# Altium schematic symbol library MULTITESTCARD V1I1.SchLib: 48 symbols (part 2 of 2)
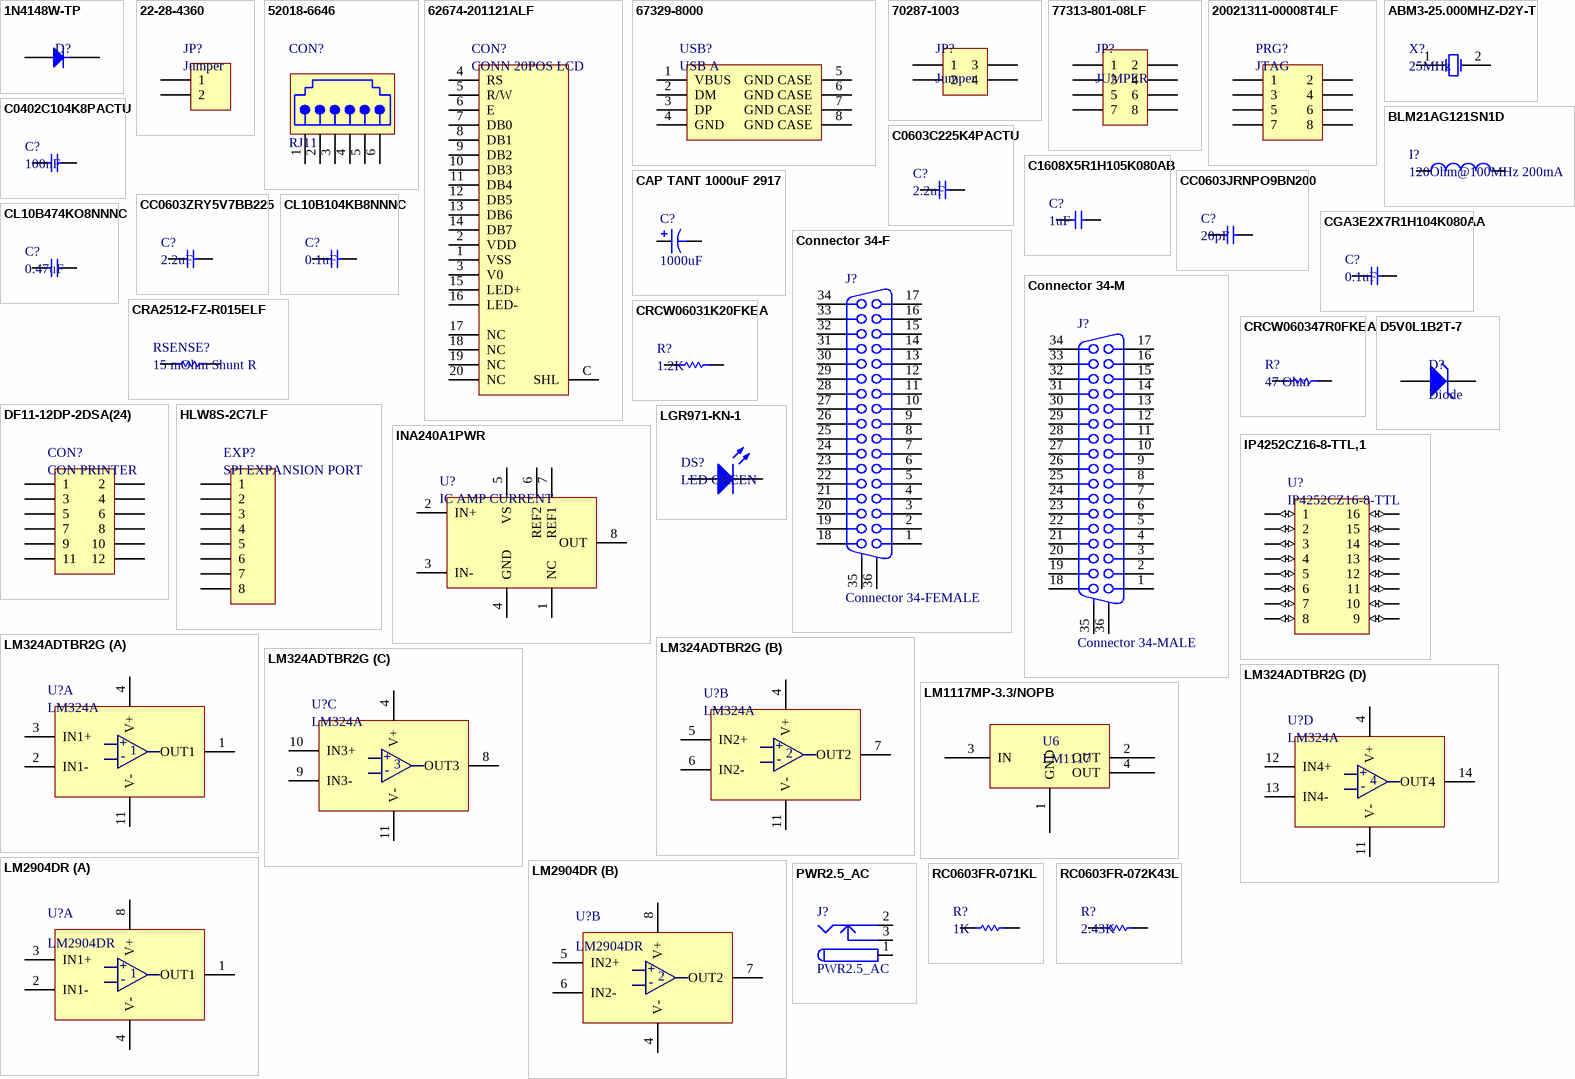
[diagram p2: symbols 1N4148W-TP to RC0603FR-072K43L]

## HLW8S-2C7LF
designator EXP?, comment SPI EXPANSION PORT
CONN FFC FPC VERT 8POS 1MM PCB; Manufacturer: Amphenol FCI; Manufacturer Part Number: HLW8S-2C7LF; Contact Resistance: 30mR; Current Rating: 1A; Voltage Rating: 100V; Number of Positions: 8; Contact Location: Top; Insulation Resistance: 500MR; Gender: Receptacle; Wire/Cable Type: Straight; Supplier 1: Digi-Key; Stock 1: 4257; Pricing 1: 1=0.22, 10=0.204, 25=0.1744, 50=0.1526, 100=0.1417, 250=0.1254, 500=0.1199, 1000=0.0981, 2500=0.0899 (USD); Mount: Through Hole; Contact Material: Bronze; Contact Plating: Tin; Housing Color: Black; Housing Material: Polybutylene; Min Operating Temperature: -55°C; Max Operating Temperature: 85°C; Number of Rows: 1; Package Quantity: 250; Packaging: Tray; Voltage Rating (AC): 100V; Termination: Solder; Max Voltage Rating (AC): 100V; Number of Contacts: 8; Max Voltage Rating (DC): 100V; Orientation: Straight; Length: 10.6mm; Pitch: 1mm; Depth: 3.9mm; Width: 3.9mm; Radiation Hardening: No; REACH SVHC: No SVHC; Lead Free: Lead Free; Flammability Rating: UL94 V-0; ComponentLink1URL: https://cdn.amphenol-icc.com/media/wysiwyg/files/drawing/hlw01lf.pdf?src-supplier=Digi-Key; ComponentLink1Description: https://cdn.amphenol-icc.com/media/wysiwyg/files/drawing/hlw01lf.pdf?src-supplier=Digi-Key; ComponentLink2URL: http://portal.fciconnect.com/Comergent/fci/drawing/hlw01lf.pdf?src-supplier=Avnet; ComponentLink2Description: http://portal.fciconnect.com/Comergent/fci/drawing/hlw01lf.pdf?src-supplier=Avnet; Supplier Part Number 1: 609-1821-ND
footprint CONN FPC/FFC 8POS (CONN FPC/FFC 8POS 1MM VERT PCB)
pins: 1, 2, 3, 4, 5, 6, 7, 8

## INA240A1PWR
designator U?, comment IC AMP CURRENT
IC AMP CURRENT SENSE 8-TSSOP; Manufacturer: Texas Instruments; Manufacturer Part Number: INA240A1PWR; Number of Circuits: 1; Slew Rate: 2V/µs; -3db Bandwidth: 400kHz; Input Bias Current: 90uA; Input Offset Voltage (Vos): 5uV; Operating Supply Current: 1.8mA; Supplier 1: Digi-Key; Stock 1: 19787; Pricing 1: 1=2.65, 10=2.377, 100=1.9109, 500=1.57, 1000=1.3008 (USD); Mount: Surface Mount; Case/Package: TSSOP; Min Operating Temperature: -40°C; Max Operating Temperature: 125°C; Packaging: Tape and Reel; Lead Free: Lead Free; Supplier Part Number 1: 296-45088-6-ND
footprint 8-TSSOP
pins: 1 NC, 2 IN+, 3 IN-, 4 GND, 5 VS, 6 REF2, 7 REF1, 8 OUT

## IP4252CZ16-8-TTL,1
designator U?, comment IP4252CZ16-8-TTL
FILTER RC(PI) 40 OHM/12PF SMD; Manufacturer: Nexperia; Manufacturer Part Number: IP4252CZ16-8-TTL,1; Supplier 1: Digi-Key; Stock 1: 8449; Pricing 1: 1=0.64, 10=0.61, 25=0.59, 50=0.4818, 100=0.4327, 250=0.3934, 500=0.3737, 1000=0.3344 (USD); Supplier Part Number 1: 1727-5675-6-ND
pins: 1 (io), 2 (io), 3 (io), 4 (io), 5 (io), 6 (io), 7 (io), 8 (io), 9 (io), 10 (io), 11 (io), 12 (io), 13 (io), 14 (io), 15 (io), 16 (io)

## LGR971-KN-1
designator DS?, comment LED GREEN
LED Uni-Color Green 572nm 2-Pin SMD T/R; Manufacturer: Osram Opto; Manufacturer Part Number: LGR971-KN-1; Lens Color: White; Forward Current: 25mA; Forward Voltage: 2.2V; Lens Style: Diffused,Flat,Colorless,Rectangular; Luminous Intensity: 45mcd; Viewing Angle: 160°; Test Current: 20mA; Dominant Wavelength: 570nm; Lens Transparency: Diffused; Luminous Flux: 0.1lm; Number of Elements: 1; Power Dissipation: 65mW; Reverse Voltage: 12V; Lens Size: 1.25mm; Supplier 1: Digi-Key; Stock 1: 173237; Pricing 1: 1=0.31, 10=0.229, 100=0.1083, 500=0.0722, 1000=0.0566 (USD); Mount: Surface Mount; Case/Package: 0805; Number of Pins: 2; Color: Green; Case Code (Metric): 2012; Case Code (Imperial): 0805; Min Operating Temperature: -30°C; Max Operating Temperature: 85°C; Packaging: Tape and Reel; Package Quantity: 1; Illumination Color: Green; Number of LEDs: 1; Length: 2.1mm; Height: 0.9mm; Width: 1.25mm; Depth: 1.35mm; Radiation Hardening: No; ComponentLink1URL: https://www.verical.com/server-webapp/html/getDatasheet?partID=233880&src-supplier=Verical; ComponentLink1Description: https://www.verical.com/server-webapp/html/getDatasheet?partID=233880&src-supplier=Verical; ComponentLink2URL: https://www.verical.com/server-webapp/html/getDatasheet?partID=462214&src-supplier=Verical; ComponentLink2Description: https://www.verical.com/server-webapp/html/getDatasheet?partID=462214&src-supplier=Verical; ComponentLink3URL: https://dammedia.osram.info/media/resource/hires/osram-dam-2493936/LG%20R971.pdf?src-supplier=Digi-Key; ComponentLink3Description: https://dammedia.osram.info/media/resource/hires/osram-dam-2493936/LG%20R971.pdf?src-supplier=Digi-Key; ComponentLink4URL: http://www.mouser.com/ds/2/311/LG%20R971%20-%20CHIPLED%200805-318376.pdf?src-supplier=Mouser; ComponentLink4Description: http://www.mouser.com/ds/2/311/LG%20R971%20-%20CHIPLED%200805-318376.pdf?src-supplier=Mouser; Supplier Part Number 1: 475-1410-6-ND
footprint LED-SMD-0805 (LED CHIPLED 570NM GREEN 0805 SMD)
pins: 1 K, 2 A

## LM324ADTBR2G
designator U?, comment LM324A
LM324A Series 0.6 V/us 32V SMT Single Supply Quad Operational Amplifier-TSSOP-14; Manufacturer: ON Semiconductor; Manufacturer Part Number: LM324ADTBR2G; Number of Channels: 4; Common Mode Rejection Ratio: 65dB; Output Current: 40mA; Max Dual Supply Voltage: 16V; Min Supply Voltage: 3V; Slew Rate: 0.6V/µs; Nominal Supply Current: 1.2mA; Min Dual Supply Voltage: 1.5V; Voltage Gain: 100dB; Gain Bandwidth Product: 1MHz; Input Bias Current: 100nA; Input Offset Voltage (Vos): 3mV; Operating Supply Current: 1.4mA; Supplier 1: Digi-Key; Stock 1: 12204; Pricing 1: 1=0.46, 10=0.392, 100=0.2924, 500=0.2298, 1000=0.1776 (USD); Case/Package: TSSOP; Number of Pins: 14; Min Operating Temperature: 0°C; Max Operating Temperature: 70°C; Packaging: Tape and Reel; Max Supply Voltage: 32V; Package Quantity: 1; Number of Circuits: 4; Output Current per Channel: 40mA; Number of Elements: 4; Power Supply Rejection Ratio (PSRR): 65dB; Operating Supply Voltage: 16V; Length: 5.1mm; Height: 1.05mm; Width: 4.5mm; Radiation Hardening: No; Lead Free: Lead Free; Halogen Free: Halogen Free; ComponentLink1URL: http://www.onsemi.com/pub/Collateral/LM324-D.PDF?src-supplier=Digi-Key; ComponentLink1Description: http://www.onsemi.com/pub/Collateral/LM324-D.PDF?src-supplier=Digi-Key; ComponentLink2URL: https://www.verical.com/server-webapp/html/getDatasheet?partID=53740&src-supplier=Verical; ComponentLink2Description: https://www.verical.com/server-webapp/html/getDatasheet?partID=53740&src-supplier=Verical; ComponentLink3URL: http://www.onsemi.com/pub_link/Collateral/LM324-D.PDF?src-supplier=Future+Electronics; ComponentLink3Description: http://www.onsemi.com/pub_link/Collateral/LM324-D.PDF?src-supplier=Future+Electronics; ComponentLink4URL: http://www.onsemi.com/pub_link/Collateral/LM324-D.PDF?src-supplier=Digi-Key; ComponentLink4Description: http://www.onsemi.com/pub_link/Collateral/LM324-D.PDF?src-supplier=Digi-Key
part A pins: 1 OUT1, 2 IN1-, 3 IN1+, 4 V+, 11 V-
part B pins: 4 V+, 5 IN2+, 6 IN2-, 7 OUT2, 11 V-
part C pins: 4 V+, 8 OUT3, 9 IN3-, 10 IN3+, 11 V-
part D pins: 4 V+, 11 V-, 12 IN4+, 13 IN4-, 14 OUT4
part A text: +; -
part B text: +; -
part C text: +; -
part D text: +; -

## LM1117MP-3.3/NOPB
designator U6, comment LM1117
Space saving 800-mA low-dropout linear regulator with internal current limit 4-SOT-223 0 to 125; Manufacturer: TI National Semiconductor; Manufacturer Part Number: LM1117MP-3.3/NOPB; Max Input Voltage: 15V; Dropout Voltage: 1.2V; Output Voltage: 3.3V; Number of Outputs: 1; Max Output Current: 800mA; Polarity: Positive; Quiescent Current: 10mA; Output Voltage Accuracy: 1%; Output Type: Fixed; Supplier 1: Digi-Key; Stock 1: 43034; Pricing 1: 1=1.14, 10=1.015, 100=0.7912, 500=0.6536 (USD); Mount: Surface Mount; Case/Package: SOT-223; Number of Pins: 4; Min Operating Temperature: 0°C; Max Operating Temperature: 125°C; Packaging: Tape and Reel; Output Current: 800mA; Nominal Output Voltage: 3.3V; Accuracy: 1%; Current Rating: 800mA; Package Quantity: 1000; Number of Regulators: 1; Min Current Limit: 800mA; Length: 6.5mm; Height: 1.6mm; Width: 3.56mm; Radiation Hardening: No; REACH SVHC: No SVHC; Lead Free: Lead Free; ComponentLink1URL: https://www.verical.com/server-webapp/html/getDatasheet?partID=112131&src-supplier=Verical; ComponentLink1Description: https://www.verical.com/server-webapp/html/getDatasheet?partID=112131&src-supplier=Verical; ComponentLink2URL: http://www.ti.com/lit/ds/symlink/lm1117-n.pdf?src-supplier=Avnet+Asia; ComponentLink2Description: http://www.ti.com/lit/ds/symlink/lm1117-n.pdf?src-supplier=Avnet+Asia; ComponentLink3URL: http://www.ti.com/lit/ds/symlink/lm1117.pdf?src-supplier=Digi-Key; ComponentLink3Description: http://www.ti.com/lit/ds/symlink/lm1117.pdf?src-supplier=Digi-Key; ComponentLink4URL: http://www.ti.com/lit/ds/symlink/lm1117-n.pdf?src-supplier=Avnet+Europe; ComponentLink4Description: http://www.ti.com/lit/ds/symlink/lm1117-n.pdf?src-supplier=Avnet+Europe; ComponentLink5URL: https://www.distrelec.com/ishop/Datasheets/lm1117_eng_tds.pdf?src-supplier=Distrelec; ComponentLink5Description: https://www.distrelec.com/ishop/Datasheets/lm1117_eng_tds.pdf?src-supplier=Distrelec; Supplier Part Number 1: LM1117MP-3.3/NOPBDKR-ND
footprint SOT223 (Connector LM1117)
pins: 1 GND, 2 OUT, 3 IN, 4 OUT

## LM2904DR
designator U?
Operational Amplifier, Dual, 700 kHz, 2, 0.3 V/ s, 1.5V to 13V, SOIC, 8 ;RoHS Compliant: Yes; Manufacturer: Texas Instruments; Unity Gain Bandwidth Product: 700kHz; Slew Rate: 0.3V/µs; Common Mode Rejection Ratio: 50dB; Max Supply Voltage: 26V; Min Supply Voltage: 3V; Voltage Gain: 100dB; Number of Channels: 2; Output Current: 30mA; Nominal Supply Current: 1.2mA; Dual Supply Voltage: 9V; Input Bias Current: 250nA; Input Offset Voltage (Vos): 7mV; Operating Supply Current: 1mA; Supplier 1: Digi-Key; Manufacturer Part Number: LM2904DR; Stock 1: 117399; Pricing 1: 1=0.41, 10=0.305, 25=0.2752, 100=0.15, 250=0.145, 500=0.13, 1000=0.1 (USD); Mount: Surface Mount; Case/Package: SOIC; Number of Pins: 8; Min Operating Temperature: -40°C; Max Operating Temperature: 125°C; Min Dual Supply Voltage: 1.5V; Max Dual Supply Voltage: 13V; Packaging: Tape and Reel; Bandwidth: 700kHz; Package Quantity: 1; Operating Supply Voltage: 13V; Number of Circuits: 2; Gain Bandwidth Product: 700kHz; Output Current per Channel: 30mA; Number of Elements: 2; Number of Amplifiers: 2; Length: 4.9mm; Height: 1.58mm; Width: 3.91mm; Radiation Hardening: No; REACH SVHC: No SVHC; Lead Free: Lead Free; ComponentLink1URL: http://www.jameco.com/Jameco/Products/ProdDS/902371.pdf?src-supplier=Jameco; ComponentLink1Description: http://www.jameco.com/Jameco/Products/ProdDS/902371.pdf?src-supplier=Jameco; ComponentLink2URL: http://www.farnell.com/datasheets/2020388.pdf?src-supplier=Element14; ComponentLink2Description: http://www.farnell.com/datasheets/2020388.pdf?src-supplier=Element14; ComponentLink3URL: http://www.farnell.com/datasheets/1840278.pdf?src-supplier=Element14; ComponentLink3Description: http://www.farnell.com/datasheets/1840278.pdf?src-supplier=Element14; ComponentLink4URL: http://www.ti.com/lit/ds/symlink/lm258a.pdf?src-supplier=Digi-Key; ComponentLink4Description: http://www.ti.com/lit/ds/symlink/lm258a.pdf?src-supplier=Digi-Key; ComponentLink5URL: http://www.ti.com/general/docs/lit/getliterature.tsp?genericPartNumber=LM158A&&fileType=pdf&src-supplier=Avnet; ComponentLink5Description: http://www.ti.com/general/docs/lit/getliterature.tsp?genericPartNumber=LM158A&&fileType=pdf&src-supplier=Avnet; Supplier Part Number 1: 296-14596-1-ND
footprint 8-SOIC (LM2904DR)
part A pins: 1 OUT1, 2 IN1-, 3 IN1+, 4 V-, 8 V+
part B pins: 4 V-, 5 IN2+, 6 IN2-, 7 OUT2, 8 V+
part A text: +; -
part B text: +; -

## PWR2.5_AC
designator J?
CONN POWER JACK 2.1MM; Manufacturer: CUI Inc; Manufacturer Part Number: PJ-002A; Gender: Male; Shielding: Unshielded; Current Rating: 2.5A; Voltage Rating: 24V; Insulation Resistance: 50MR; Number of Conductors: 2; Published: 17-Dec-2003; DatasheetDocument: 09-May-2002; Publisher: Altium Limited; ComponentLink1Description: Manufacturer Link; ComponentLink1URL: http://domino.kycon.com/internet/Products.html; Supplier 1: Digi-Key; Supplier Part Number 1: CP-002A-ND; Stock 1: 51043; Pricing 1: 1=0.6, 10=0.558, 25=0.5024, 50=0.4464, 100=0.4278, 250=0.3906, 500=0.372, 1000=0.3069, 2500=0.279 (USD); Mount: Through Hole; Color: Black; Contact Material: Copper Alloy,Copper; Contact Plating: Tin,Nickel; Housing Color: Black; Housing Material: Thermoplastic; Min Operating Temperature: -25°C; Max Operating Temperature: 85°C; Termination: Through Hole; Connector Type: Jack; Packaging: Bulk; Package Quantity: 500; Contact Gender: Male; Orientation: Horizontal; Diameter: 2.1mm; Lead Free: Lead Free; Flammability Rating: UL94 V-0
signal-integrity model Connector
footprint KLD-0202-AC (DC Power Jack, 2.5mm, KLD Series, PCB Mount)
pins: 1 (power), 2 (power), 3 (power)

## RC0603FR-071KL
designator R?, comment 1K
RES SMD 1K OHM 1% 1/10W 0603; Manufacturer: Yageo; Manufacturer Part Number: RC0603FR-071KL; Resistance: 1kR; Power Rating: 100mW; Temperature Coefficient: 100ppm/°C; Voltage Rating: 50V; Supplier 1: Digi-Key; Stock 1: 48702346; Pricing 1: 1=0.1, 10=0.024, 100=0.0097, 1000=0.0044, 2500=0.0038 (USD); Case/Package: 0603; Case Code (Imperial): 0603; Case Code (Metric): 1608; Contact Plating: Tin,Matte; Min Operating Temperature: -55°C; Max Operating Temperature: 155°C; Tolerance: 1%; Packaging: Tape and Reel; Military Standard: Not; Termination: SMD/SMT; Composition: Thick Film; Length: 1.6mm; Height: 0.45mm; Depth: 0.8mm; Radiation Hardening: No; REACH SVHC: No SVHC; Lead Free: Lead Free; ComponentLink1URL: http://documents.rs-components.com/techlib://itc_doclist_GB.htm?stockno=5048928&src-supplier=RSComponents; ComponentLink1Description: http://documents.rs-components.com/techlib://itc_doclist_GB.htm?stockno=5048928&src-supplier=RSComponents; ComponentLink2URL: http://www.yageo.com/documents/recent/PYu-RC0603_51_RoHS_L_4.pdf?src-supplier=Avnet+Europe; ComponentLink2Description: http://www.yageo.com/documents/recent/PYu-RC0603_51_RoHS_L_4.pdf?src-supplier=Avnet+Europe; ComponentLink3URL: http://www.farnell.com/datasheets/2167052.pdf?src-supplier=Element14; ComponentLink3Description: http://www.farnell.com/datasheets/2167052.pdf?src-supplier=Element14; ComponentLink4URL: http://www.farnell.com/datasheets/1868787.pdf?src-supplier=Element14; ComponentLink4Description: http://www.farnell.com/datasheets/1868787.pdf?src-supplier=Element14; ComponentLink5URL: http://www.yageo.com/documents/recent/PYu-RC_Group_51_RoHS_L_2.pdf?src-supplier=Avnet; ComponentLink5Description: http://www.yageo.com/documents/recent/PYu-RC_Group_51_RoHS_L_2.pdf?src-supplier=Avnet; ComponentLink6URL: https://www.verical.com/server-webapp/html/getDatasheet?partID=404327&src-supplier=Verical; ComponentLink6Description: https://www.verical.com/server-webapp/html/getDatasheet?partID=404327&src-supplier=Verical; ComponentLink7URL: http://www.farnell.com/datasheets/443971.pdf?src-supplier=Element14; ComponentLink7Description: http://www.farnell.com/datasheets/443971.pdf?src-supplier=Element14; Supplier Part Number 1: 311-1.00KHRDKR-ND
footprint R-0603 (RES 0603)
pins: 1, 2

## RC0603FR-072K43L
designator R?, comment 2.43K
RES SMD 2.43K OHM 1% 1/10W 0603; Manufacturer: Yageo; Manufacturer Part Number: RC0603FR-072K43L; Resistance: 2.43kR; Power Rating: 100mW; Voltage Rating: 50V; Temperature Coefficient: 100ppm/°C; Supplier 1: Digi-Key; Stock 1: 703719; Pricing 1: 1=0.1, 10=0.024, 100=0.0097, 1000=0.0044, 2500=0.0038 (USD); Case/Package: 0603; Case Code (Metric): 1608; Case Code (Imperial): 0603; Min Operating Temperature: -55°C; Max Operating Temperature: 155°C; Tolerance: 1%; Packaging: Tape and Reel; Composition: Thick Film; Termination: SMD/SMT; Military Standard: Not; Voltage Rating (DC): 50V; Package Quantity: 1; Number of Terminations: 2; Max Power Dissipation: 100mW; Features: Moisture Resistant; Length: 1.6mm; Height: 0.022inch; Width: 0.031inch; Depth: 0.8mm; Lead Free: Lead Free; ComponentLink1URL: https://www.verical.com/server-webapp/html/getDatasheet?partID=28835&src-supplier=Verical; ComponentLink1Description: https://www.verical.com/server-webapp/html/getDatasheet?partID=28835&src-supplier=Verical; ComponentLink2URL: http://www.yageo.com/documents/recent/PYu-RC_Group_51_RoHS_L_9.pdf?src-supplier=Digi-Key; ComponentLink2Description: http://www.yageo.com/documents/recent/PYu-RC_Group_51_RoHS_L_9.pdf?src-supplier=Digi-Key; ComponentLink3URL: http://www.yageo.com/documents/recent/PYu-RC_Group_51_RoHS_L_10.pdf?src-supplier=Digi-Key; ComponentLink3Description: http://www.yageo.com/documents/recent/PYu-RC_Group_51_RoHS_L_10.pdf?src-supplier=Digi-Key; ComponentLink4URL: http://www.mouser.com/catalog/specsheets/RC0603.pdf?src-supplier=Mouser; ComponentLink4Description: http://www.mouser.com/catalog/specsheets/RC0603.pdf?src-supplier=Mouser; Supplier Part Number 1: 311-2.43KHRDKR-ND
footprint R-0603 (RES 0603)
pins: 1, 2

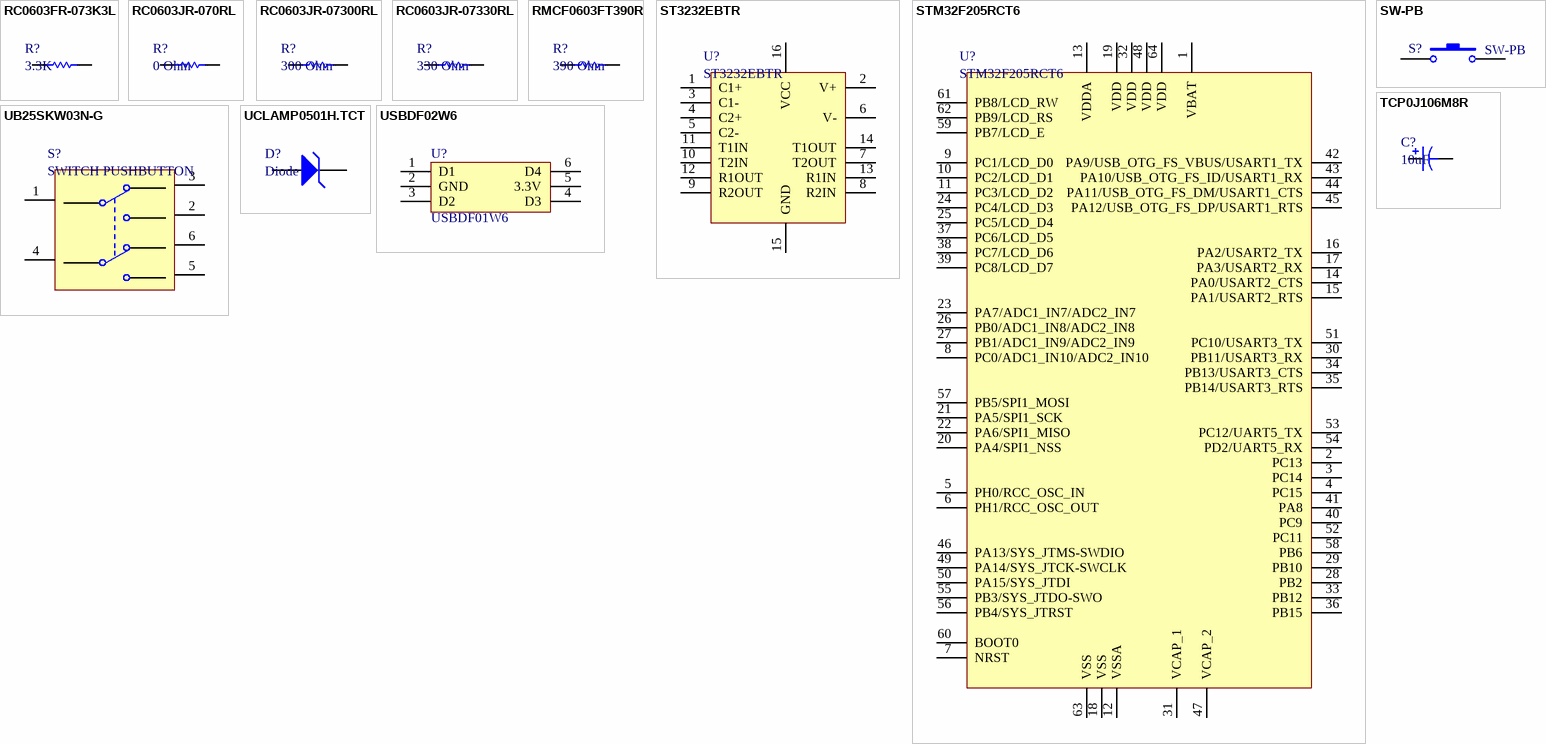
[diagram p1: symbols RC0603FR-073K3L to USBDF02W6]

## RC0603FR-073K3L
designator R?, comment 3.3K
Yageo RC Series Thick Film Surface Mount Resistor 0603 Case 3300 1% 0.1W 100ppm/C; Manufacturer: Yageo Phycomp; Manufacturer Part Number: RC0603FR-073K3L; Power Rating: 100mW; Temperature Coefficient: 100ppm/°C; Voltage Rating (DC): 50V; Resistance: 3.3kR; Supplier 1: Digi-Key; Stock 1: 5812833; Pricing 1: 1=0.1, 10=0.024, 100=0.0097, 1000=0.0044, 2500=0.0038 (USD); Mount: Surface Mount; Case/Package: 0603; Number of Pins: 2; Min Operating Temperature: -55°C; Max Operating Temperature: 155°C; Tolerance: 1%; Packaging: Cut Tape; Length: 1.6mm; Height: 0.45mm; Depth: 0.8mm; Width: 800um; REACH SVHC: No SVHC; Lead Free: Lead Free; Supplier Part Number 1: 311-3.30KHRDKR-ND
footprint R-0603 (RES 0603)
pins: 1, 2

## RC0603JR-070RL
designator R?, comment 0 Ohm
RES SMD 0 OHM JUMPER 1/10W 0603; Manufacturer: Yageo; Manufacturer Part Number: RC0603JR-070RL; Resistance: 0mR; Power Rating: 100mW; Voltage Rating (DC): 50V; Tolerance: 1%; Temperature Coefficient: 200ppm/°C; Supplier 1: Digi-Key; Stock 1: 41795078; Pricing 1: 1=0.1, 10=0.022, 25=0.0156, 50=0.012, 100=0.0088, 250=0.0067, 500=0.0054, 1000=0.004 (USD); Case/Package: 0603; Number of Pins: 2; Case Code (Imperial): 0603; Case Code (Metric): 1608; Contact Plating: Tin,Matte; Min Operating Temperature: -55°C; Max Operating Temperature: 155°C; Packaging: Tape and Reel; Composition: Thick Film; Military Standard: Not; Voltage Rating: 50V; Package Quantity: 5000; Termination: SMD/SMT; Length: 1.6mm; Height: 0.45mm; Width: 0.8mm; Depth: 0.8mm; Radiation Hardening: No; Lead Free: Lead Free; REACH SVHC: No SVHC; ComponentLink1URL: http://www.farnell.com/datasheets/1868787.pdf?src-supplier=Element14; ComponentLink1Description: http://www.farnell.com/datasheets/1868787.pdf?src-supplier=Element14; ComponentLink2URL: https://www.verical.com/server-webapp/html/getDatasheet?partID=329462&src-supplier=Verical; ComponentLink2Description: https://www.verical.com/server-webapp/html/getDatasheet?partID=329462&src-supplier=Verical; ComponentLink3URL: http://www.farnell.com/datasheets/2167052.pdf?src-supplier=Element14; ComponentLink3Description: http://www.farnell.com/datasheets/2167052.pdf?src-supplier=Element14; ComponentLink4URL: http://www.yageo.com/documents/recent/PYu-RC_Group_51_RoHS_L_9.pdf?src-supplier=Mouser; ComponentLink4Description: http://www.yageo.com/documents/recent/PYu-RC_Group_51_RoHS_L_9.pdf?src-supplier=Mouser; ComponentLink5URL: http://www.farnell.com/datasheets/443971.pdf?src-supplier=Element14; ComponentLink5Description: http://www.farnell.com/datasheets/443971.pdf?src-supplier=Element14; ComponentLink6URL: http://documents.rs-components.com/techlib://itc_doclist_GB.htm?stockno=6515918&src-supplier=RSComponents; ComponentLink6Description: http://documents.rs-components.com/techlib://itc_doclist_GB.htm?stockno=6515918&src-supplier=RSComponents; Supplier Part Number 1: 311-0.0GRDKR-ND
footprint R-0603 (RES 0603)
pins: 1, 2

## RC0603JR-07300RL
designator R?, comment 300 Ohm
RES SMD 300 OHM 5% 1/10W 0603; Manufacturer: Yageo; Manufacturer Part Number: RC0603JR-07300RL; Resistance: 300R; Power Rating: 100mW; Voltage Rating: 75V; Temperature Coefficient: 100ppm/°C; Voltage Rating (DC): 50V; Supplier 1: Digi-Key; Stock 1: 150; Pricing 1: 1=0.1, 10=0.02, 100=0.0081, 1000=0.0036, 2500=0.0031 (USD); Case/Package: 0603; Number of Pins: 2; Weight: 7.1E-05oz; Case Code (Imperial): 0603; Case Code (Metric): 1608; Min Operating Temperature: -55°C; Max Operating Temperature: 155°C; Tolerance: 5%; Packaging: Tape and Reel; Termination: SMD/SMT; Composition: Thick Film; Military Standard: Not; Length: 1.6mm; Height: 0.45mm; Width: 0.8mm; Depth: 0.8mm; REACH SVHC: Unknown; Lead Free: Lead Free; ComponentLink1URL: http://www.farnell.com/datasheets/2167052.pdf?src-supplier=Farnell; ComponentLink1Description: http://www.farnell.com/datasheets/2167052.pdf?src-supplier=Farnell; ComponentLink2URL: http://www.yageo.com/documents/recent/PYu-RC0603_51_RoHS_L_7.pdf?src-supplier=Future+Electronics; ComponentLink2Description: http://www.yageo.com/documents/recent/PYu-RC0603_51_RoHS_L_7.pdf?src-supplier=Future+Electronics; ComponentLink3URL: http://www.mouser.com/ds/2/447/RC0603-1212058.pdf?src-supplier=Mouser; ComponentLink3Description: http://www.mouser.com/ds/2/447/RC0603-1212058.pdf?src-supplier=Mouser; ComponentLink4URL: http://components.arrow.com/part/dataview/0323_03543424?src-supplier=Arrow+Europe; ComponentLink4Description: http://components.arrow.com/part/dataview/0323_03543424?src-supplier=Arrow+Europe; ComponentLink5URL: http://www.yageo.com/documents/recent/PYu-RC_Group_51_RoHS_L_9.pdf?src-supplier=Digi-Key; ComponentLink5Description: http://www.yageo.com/documents/recent/PYu-RC_Group_51_RoHS_L_9.pdf?src-supplier=Digi-Key; ComponentLink6URL: http://www.yageo.com/documents/recent/PYu-RC_Group_51_RoHS_L_10.pdf?src-supplier=Digi-Key; ComponentLink6Description: http://www.yageo.com/documents/recent/PYu-RC_Group_51_RoHS_L_10.pdf?src-supplier=Digi-Key; ComponentLink7URL: http://www.farnell.com/datasheets/1868787.pdf?src-supplier=Element14; ComponentLink7Description: http://www.farnell.com/datasheets/1868787.pdf?src-supplier=Element14; Supplier Part Number 1: 311-300GRDKR-ND
footprint R-0603 (RES 0603)
pins: 1, 2

## RC0603JR-07330RL
designator R?, comment 330 Ohm
RES SMD 330 OHM 5% 1/10W 0603; Manufacturer: Yageo; Manufacturer Part Number: RC0603JR-07330RL; Resistance: 330R; Power Rating: 100mW; Voltage Rating (DC): 50V; Temperature Coefficient: 100ppm/°C; Supplier 1: Digi-Key; Stock 1: 5319563; Pricing 1: 1=0.1, 10=0.02, 100=0.0081, 1000=0.0036, 2500=0.0031 (USD); Case/Package: 0603; Number of Pins: 2; Case Code (Imperial): 0603; Case Code (Metric): 1608; Min Operating Temperature: -55°C; Max Operating Temperature: 155°C; Tolerance: 5%; Packaging: Tape and Reel; Voltage Rating: 50V; Package Quantity: 5000; Termination: SMD/SMT; Composition: Thick Film; Military Standard: Not; Length: 1.6mm; Height: 0.45mm; Width: 0.8mm; Depth: 0.8mm; REACH SVHC: No SVHC; Lead Free: Lead Free; ComponentLink1URL: http://www.farnell.com/datasheets/1868787.pdf?src-supplier=Element14; ComponentLink1Description: http://www.farnell.com/datasheets/1868787.pdf?src-supplier=Element14; ComponentLink2URL: http://www.farnell.com/datasheets/443971.pdf?src-supplier=Element14; ComponentLink2Description: http://www.farnell.com/datasheets/443971.pdf?src-supplier=Element14; ComponentLink3URL: https://www.verical.com/server-webapp/html/getDatasheet?partID=342831&src-supplier=Verical; ComponentLink3Description: https://www.verical.com/server-webapp/html/getDatasheet?partID=342831&src-supplier=Verical; ComponentLink4URL: http://www.mouser.com/catalog/specsheets/RC0603.pdf?src-supplier=Mouser; ComponentLink4Description: http://www.mouser.com/catalog/specsheets/RC0603.pdf?src-supplier=Mouser; Supplier Part Number 1: 311-330GRDKR-ND
footprint R-0603 (RES 0603)
pins: 1, 2

## RMCF0603FT390R
designator R?, comment 390 Ohm
Res Thick Film 0603 390 Ohm 1% 0.1W ±100ppm/°C Molded SMD Paper T/R; Manufacturer: Stackpole Electronics; Manufacturer Part Number: RMCF0603FT390R; Resistance: 390R; Max Power Dissipation: 100mW; Supplier 1: Digi-Key; Stock 1: 0; Pricing 1: 1=0.1, 10=0.017, 100=0.0068, 1000=0.0031, 2500=0.0027 (USD); Mount: Surface Mount; Case/Package: 0603; Case Code (Metric): 1608; Case Code (Imperial): 0603; Contact Plating: Tin,Matte; Min Operating Temperature: -55°C; Max Operating Temperature: 155°C; Packaging: Tape and Reel; Tolerance: 1%; Composition: Thick Film; Number of Terminations: 2; Temperature Coefficient: 100ppm/°C; Features: Automotive AEC-Q200; Length: 0.061inch; Height: 0.022inch; Width: 0.031inch; Radiation Hardening: No; Supplier Part Number 1: RMCF0603FT390RDKR-ND
footprint R-0603 (RES 0603)
pins: 1, 2

## ST3232EBTR
designator U?
IC DRVR/RCVR RS232 ESD 16-TSSOP; Manufacturer: STMicroelectronics; Data Rate: 250Kbps; Number of Receivers: 2; Max Supply Voltage: 5.5V; Min Supply Voltage: 3V; Nominal Supply Current: 1mA; Interface: RS-232; Number of Transceivers: 1; Logic Function: Receiver; Output Voltage: 13.2V; Supplier 1: Digi-Key; Manufacturer Part Number: ST3232EBTR; Stock 1: 24430; Pricing 1: 1=1.35, 10=1.21, 100=0.9433, 500=0.7793, 1000=0.6152 (USD); Mount: Surface Mount; Case/Package: TSSOP; Number of Pins: 16; Min Operating Temperature: -40°C; Max Operating Temperature: 85°C; Number of Transmitters: 2; Packaging: Tape and Reel; Package Quantity: 1; Number of Drivers: 2; Length: 5.1mm; Height: 1.05mm; Width: 4.48mm; Radiation Hardening: No; REACH SVHC: No SVHC; Lead Free: Lead Free; ComponentLink1URL: http://www.st.com/content/ccc/resource/technical/document/datasheet/60/fc/e5/60/2c/24/41/88/CD00002950.pdf/files/CD00002950.pdf/jcr:content/translations/en.CD00002950.pdf?src-supplier=Digi-Key; ComponentLink1Description: http://www.st.com/content/ccc/resource/technical/document/datasheet/60/fc/e5/60/2c/24/41/88/CD00002950.pdf/files/CD00002950.pdf/jcr:content/translations/en.CD00002950.pdf?src-supplier=Digi-Key; ComponentLink2URL: http://www.st.com/web/en/resource/technical/document/datasheet/CD00002950.pdf?src-supplier=Mouser; ComponentLink2Description: http://www.st.com/web/en/resource/technical/document/datasheet/CD00002950.pdf?src-supplier=Mouser; ComponentLink3URL: http://www.farnell.com/datasheets/1689894.pdf?src-supplier=Element14; ComponentLink3Description: http://www.farnell.com/datasheets/1689894.pdf?src-supplier=Element14; ComponentLink4URL: http://www.st.com/web/en/resource/technical/document/datasheet/CD00002950.pdf?src-supplier=Future+Electronics; ComponentLink4Description: http://www.st.com/web/en/resource/technical/document/datasheet/CD00002950.pdf?src-supplier=Future+Electronics; Supplier Part Number 1: 497-6536-6-ND
footprint TSSOP-16 (Shrink Small Outline, Plastic, Thin; 16 Leads; Body Width 4.5 mm; Pitch 0.65 mm)
pins: 1 C1+, 2 V+, 3 C1-, 4 C2+, 5 C2-, 6 V-, 7 T2OUT, 8 R2IN, 9 R2OUT, 10 T2IN, 11 T1IN, 12 R1OUT, 13 R1IN, 14 T1OUT, 15 GND, 16 VCC

## STM32F205RCT6
designator U?
MCU 32-bit STM32 ARM Cortex M3 RISC 256KB Flash 2.5V/3.3V 64-Pin LQFP Tray; Manufacturer: STMicroelectronics; RAM Size: 100KB; Max Power Dissipation: 444mW; Interface: SDIO,I2C,SPI,USB,CAN,IrDA,MMC,UART,USART,LIN,I2S; Number of I/Os: 51; Number of Timers/Counters: 14; Max Supply Voltage: 3.6V; Number of PWM Channels: 2; Frequency: 120MHz; Min Supply Voltage: 1.8V; Number of Programmable I/O: 16; Data Bus Width: 32b; Oscillator Type: Internal; Number of SPI Channels: 3; Number of Ethernet Channels: 1; Watchdog Timer: Yes; Peripherals: Brown-out Detect/Reset,POR,PWM,WDT,DMA,LCD,I2C; Supplier 1: Digi-Key; Manufacturer Part Number: STM32F205RCT6; Stock 1: 1348; Pricing 1: 1=7.79, 10=7.04, 160=5.8288, 640=5.0756, 1120=4.4207 (USD); Case/Package: LQFP; Number of Pins: 64; Min Operating Temperature: -40°C; Max Operating Temperature: 85°C; Package Quantity: 160; Packaging: Tray; Max Frequency: 120MHz; Number of USB Channels: 2; Number of ADC Channels: 16; Number of I2C Channels: 3; Memory Type: FLASH; Memory Size: 256KB; Number of UART Channels: 2; Core Architecture: ARM; Length: 10.2mm; Height: 1.45mm; Width: 10.2mm; Radiation Hardening: No; REACH SVHC: No SVHC; Lead Free: Lead Free; ComponentLink1URL: http://www.farnell.com/datasheets/1776949.pdf?src-supplier=Element14; ComponentLink1Description: http://www.farnell.com/datasheets/1776949.pdf?src-supplier=Element14; ComponentLink2URL: http://www.st.com/web/en/resource/technical/document/datasheet/CD00237391.pdf?src-supplier=Future+Electronics; ComponentLink2Description: http://www.st.com/web/en/resource/technical/document/datasheet/CD00237391.pdf?src-supplier=Future+Electronics; ComponentLink3URL: http://www.st.com/web/en/resource/technical/document/datasheet/CD00237391.pdf?src-supplier=Avnet+Asia; ComponentLink3Description: http://www.st.com/web/en/resource/technical/document/datasheet/CD00237391.pdf?src-supplier=Avnet+Asia; ComponentLink4URL: http://www.produktinfo.conrad.com/datenblaetter/1000000-1099999/001075498-da-01-en-MCU_256KB_STM32F205RCT6_LQFP_64_STM.pdf?src-supplier=Conrad; ComponentLink4Description: http://www.produktinfo.conrad.com/datenblaetter/1000000-1099999/001075498-da-01-en-MCU_256KB_STM32F205RCT6_LQFP_64_STM.pdf?src-supplier=Conrad; Supplier Part Number 1: 497-11154-ND
footprint 64-LQFP
pins: 1 VBAT, 2 PC13, 3 PC14, 4 PC15, 5 PH0/RCC_OSC_IN, 6 PH1/RCC_OSC_OUT, 7 NRST, 8 PC0/ADC1_IN10/ADC2_IN10, 9 PC1/LCD_D0, 10 PC2/LCD_D1, 11 PC3/LCD_D2, 12 VSSA, 13 VDDA, 14 PA0/USART2_CTS, 15 PA1/USART2_RTS, 16 PA2/USART2_TX, 17 PA3/USART2_RX, 18 VSS, 19 VDD, 20 PA4/SPI1_NSS, 21 PA5/SPI1_SCK, 22 PA6/SPI1_MISO, 23 PA7/ADC1_IN7/ADC2_IN7, 24 PC4/LCD_D3, 25 PC5/LCD_D4, 26 PB0/ADC1_IN8/ADC2_IN8, 27 PB1/ADC1_IN9/ADC2_IN9, 28 PB2, 29 PB10, 30 PB11/USART3_RX, 31 VCAP_1, 32 VDD, 33 PB12, 34 PB13/USART3_CTS, 35 PB14/USART3_RTS, 36 PB15, 37 PC6/LCD_D5, 38 PC7/LCD_D6, 39 PC8/LCD_D7, 40 PC9, 41 PA8, 42 PA9/USB_OTG_FS_VBUS/USART1_TX, 43 PA10/USB_OTG_FS_ID/USART1_RX, 44 PA11/USB_OTG_FS_DM/USART1_CTS, 45 PA12/USB_OTG_FS_DP/USART1_RTS, 46 PA13/SYS_JTMS-SWDIO, 47 VCAP_2, 48 VDD, 49 PA14/SYS_JTCK-SWCLK, 50 PA15/SYS_JTDI, 51 PC10/USART3_TX, 52 PC11, 53 PC12/UART5_TX, 54 PD2/UART5_RX, 55 PB3/SYS_JTDO-SWO, 56 PB4/SYS_JTRST, 57 PB5/SPI1_MOSI, 58 PB6, 59 PB7/LCD_E, 60 BOOT0, 61 PB8/LCD_RW, 62 PB9/LCD_RS, 63 VSS, 64 VDD

## SW-PB
designator S?
Switch; Revision: July-2002: Re-released for DXP Platform.; Supplier 1: Digi-Key; Supplier Part Number 1: P12212S-ND
footprint PULSADOR_1
footprint PULSADOR_SW-PB
pins: 1, 2

## TCP0J106M8R
designator C?, comment 10uF
CAP TANT 10UF 6.3V 20% 0805; Manufacturer: Rohm; Manufacturer Part Number: TCP0J106M8R; ESR (Equivalent Series Resistance): 8.3R; Supplier 1: Digi-Key; Stock 1: 89891; Pricing 1: 1=0.46, 10=0.316, 100=0.1898, 500=0.1423, 1000=0.1202 (USD); Mount: Surface Mount; Case/Package: 0805; Case Code (Metric): 2012; Case Code (Imperial): 0805; Min Operating Temperature: -55°C; Max Operating Temperature: 125°C; Capacitance: 10uF; Tolerance: 20%; Package Quantity: 1; Voltage Rating: 6.3V; Packaging: Tape and Reel; Voltage Rating (DC): 6.3V; Features: General Purpose; Length: 0.079inch; Width: 0.049inch; Height - Seated (Max): 0.047inch; Lead Free: Lead Free; ComponentLink1URL: http://rohmfs.rohm.com/en/products/databook/datasheet/passive/tantalum_capacitor/tantalum_chip_capacitor/tc_p.pdf?src-supplier=Future+Electronics; ComponentLink1Description: http://rohmfs.rohm.com/en/products/databook/datasheet/passive/tantalum_capacitor/tantalum_chip_capacitor/tc_p.pdf?src-supplier=Future+Electronics; Supplier Part Number 1: 511-1447-6-ND
footprint CC2012-0805
pins: 1, 2

## UB25SKW03N-G
designator S?, comment SWITCH PUSHBUTTON
SWITCH PUSHBUTTON DPDT 5A 125V; Manufacturer: NKK Switches; Manufacturer Part Number: UB25SKW03N-G; Mechanical Life: 1000000Cycles; Voltage Rating (DC): 30V; Electrical Life: 10000Cycles; Switch Function: On-Mom; Actuator Type: Square, Button; Supplier 1: Digi-Key; Stock 1: 41; Pricing 1: 1=7.79, 10=7.22, 25=7.03, 50=6.84, 100=6.46, 250=6.27, 500=5.89, 1000=5.32 (USD); Mount: Through Hole; Contact Plating: Silver; Min Operating Temperature: -20°C; Max Operating Temperature: 70°C; Packaging: Bulk; Current Rating: 5A; Package Quantity: 1; Voltage Rating (AC): 125V; Termination: PC Pin; Throw Configuration: DPDT; Orientation: Vertical; Lead Free: Lead Free; Flammability Rating: UL94 V-0; ComponentLink1URL: http://www.nkkswitches.com/pdf/ubnonilluminated.pdf?src-supplier=Digi-Key; ComponentLink1Description: http://www.nkkswitches.com/pdf/ubnonilluminated.pdf?src-supplier=Digi-Key; ComponentLink2URL: http://www.nkkswitches.com/pdf/ubilluminated.pdf?src-supplier=Future+Electronics; ComponentLink2Description: http://www.nkkswitches.com/pdf/ubilluminated.pdf?src-supplier=Future+Electronics; Supplier Part Number 1: 360-3471-ND
footprint UB26SKW03N
pins: 1 COMMON1, 2 NO1, 3 NC1, 4 COMMON2, 5 NO2, 6 NC2

## UCLAMP0501H.TCT
designator D?, comment Diode
TVS DIODE 5VWM 12.5VC SOD523; Manufacturer: Semtech; Manufacturer Part Number: UCLAMP0501H.TCT; Capacitance: 160pF; Number of Channels: 1; Direction: Unidirectional; Reverse Breakdown Voltage: 6V; Reverse Standoff Voltage: 5V; Clamping Voltage: 12.5V; Peak Pulse Power: 240W; Power Line Protection: No; Leakage Current: 5uA; Peak Pulse Current: 16A; Test Current: 1mA; Element Configuration: Single; Supplier 1: Digi-Key; Stock 1: 29145; Pricing 1: 1=0.58, 10=0.51, 25=0.4788, 100=0.3909, 250=0.3631, 500=0.309, 1000=0.2472 (USD); Mount: Surface Mount; Number of Pins: 2; Min Operating Temperature: -55°C; Max Operating Temperature: 125°C; Packaging: Tape and Reel; Number of Elements: 1; Number of Unidirectional Channels: 1; Min Breakdown Voltage: 6V; Max Breakdown Voltage: 6V; Working Voltage: 5V; Polarity: Unidirectional; Breakdown Voltage: 6V; Max Power Dissipation: 240W; Voltage Rating (DC): 5V; Composition: Zener; Length: 1.3mm; Depth: 0.9mm; Width: 900um; Radiation Hardening: No; REACH SVHC: No SVHC; Lead Free: Lead Free; ComponentLink1URL: http://www.semtech.com/images/datasheet/uclamp0501h.pdf?src-supplier=Future+Electronics; ComponentLink1Description: http://www.semtech.com/images/datasheet/uclamp0501h.pdf?src-supplier=Future+Electronics; ComponentLink2URL: https://www.verical.com/server-webapp/html/getDatasheet?partID=51047&src-supplier=Verical; ComponentLink2Description: https://www.verical.com/server-webapp/html/getDatasheet?partID=51047&src-supplier=Verical; ComponentLink3URL: http://www.semtech.com/images/datasheet/uclamp0501h.pdf?src-supplier=Digi-Key; ComponentLink3Description: http://www.semtech.com/images/datasheet/uclamp0501h.pdf?src-supplier=Digi-Key; ComponentLink4URL: https://www.semtech.com/uploads/documents/uclamp0501h.pdf?src-supplier=Digi-Key; ComponentLink4Description: https://www.semtech.com/uploads/documents/uclamp0501h.pdf?src-supplier=Digi-Key; ComponentLink5URL: http://www.semtech.com/images/datasheet/uclamp0501h.pdf?src-supplier=Element14; ComponentLink5Description: http://www.semtech.com/images/datasheet/uclamp0501h.pdf?src-supplier=Element14; ComponentLink6URL: http://www.farnell.com/datasheets/1796175.pdf?src-supplier=Element14; ComponentLink6Description: http://www.farnell.com/datasheets/1796175.pdf?src-supplier=Element14; ComponentLink7URL: http://www.semtech.com/images/datasheet/uclamp0501h.pdf?src-supplier=Avnet; ComponentLink7Description: http://www.semtech.com/images/datasheet/uclamp0501h.pdf?src-supplier=Avnet; Supplier Part Number 1: UCLAMP0501HDKR-ND
footprint SOD-523 (DIODE SC-79 SOD-523)
pins: 1 A, 2 K

## USBDF02W6
designator U?, comment USBDF01W6
STMICROELECTRONICS - USBUF02W6 - Analogue Filter, Lowpass, 2nd, SOT-323 RoHS Compliant: Yes; DC Resistance (DCR): 33R; Test Frequency: 30MHz; Number of Channels: 2; Capacitance: 47pF; Tolerance: 10%; Supplier 1: Digi-Key; Supplier Part Number 1: 497-3743-1-ND; Manufacturer: STMicroelectronics; Manufacturer Part Number: USBUF02W6; RoHS: Yes; Category: EMI / RFI Components; Stock 1: 59157; Pricing 1: 1=0.51000, 10=0.49100, 25=0.47520, 50=0.38800, 100=0.34850, 250=0.31680, 500=0.30096, 1000=0.26928 (USD); Mount: Surface Mount; Case/Package: SOT-323; Number of Pins: 6; Min Operating Temperature: -40°C; Max Operating Temperature: 70°C; ESD Protection: Yes; Termination: Gull Wing; Packaging: Tape and Reel; Package Quantity: 1; Length: 2.2mm; Width: 1.35mm; Height: 0.043inch; Depth: 2.4mm; Radiation Hardening: No; REACH SVHC: No SVHC; Lead Free: Lead Free; ComponentLink1URL: https://datasheet.ciiva.com/11795/0900766b8097d6dc-11795459.pdf?src-supplier=RSComponents; ComponentLink1Description: https://datasheet.ciiva.com/11795/0900766b8097d6dc-11795459.pdf?src-supplier=RSComponents; ComponentLink2URL: https://datasheet.ciiva.com/26793/usbuf02w6-26793358.pdf?src-supplier=IIIC; ComponentLink2Description: https://datasheet.ciiva.com/26793/usbuf02w6-26793358.pdf?src-supplier=IIIC; ComponentLink3URL: https://datasheet.ciiva.com/4479/cd00002046-4479544.pdf?src-supplier=Mouser; ComponentLink3Description: https://datasheet.ciiva.com/4479/cd00002046-4479544.pdf?src-supplier=Mouser; ComponentLink4URL: https://datasheet.ciiva.com/6212/cd00002046-6212812.pdf?src-supplier=Digi-Key; ComponentLink4Description: https://datasheet.ciiva.com/6212/cd00002046-6212812.pdf?src-supplier=Digi-Key; ComponentLink5URL: https://datasheet.ciiva.com/15162/getdatasheetpartid-131618-15162460.pdf?src-supplier=Verical; ComponentLink5Description: https://datasheet.ciiva.com/15162/getdatasheetpartid-131618-15162460.pdf?src-supplier=Verical; ComponentLink6URL: https://datasheet.ciiva.com/6212/cd00002046-6212814.pdf?src-supplier=Digi-Key; ComponentLink6Description: https://datasheet.ciiva.com/6212/cd00002046-6212814.pdf?src-supplier=Digi-Key
footprint SOT323-6L (SOT23, 6-Leads, Body 2,00x2,88mm, Pitch 0,65mm, IPC Medium Density)
pins: 1 D1 "Ground", 2 GND "-DATA", 3 D2 "Shield", 4 D3 "+DATA", 5 3.3V "-DATA", 6 D4 "Power"